# Altium integrated library Actel IGLOO.IntLib: 429 symbols (part 14 of 47)
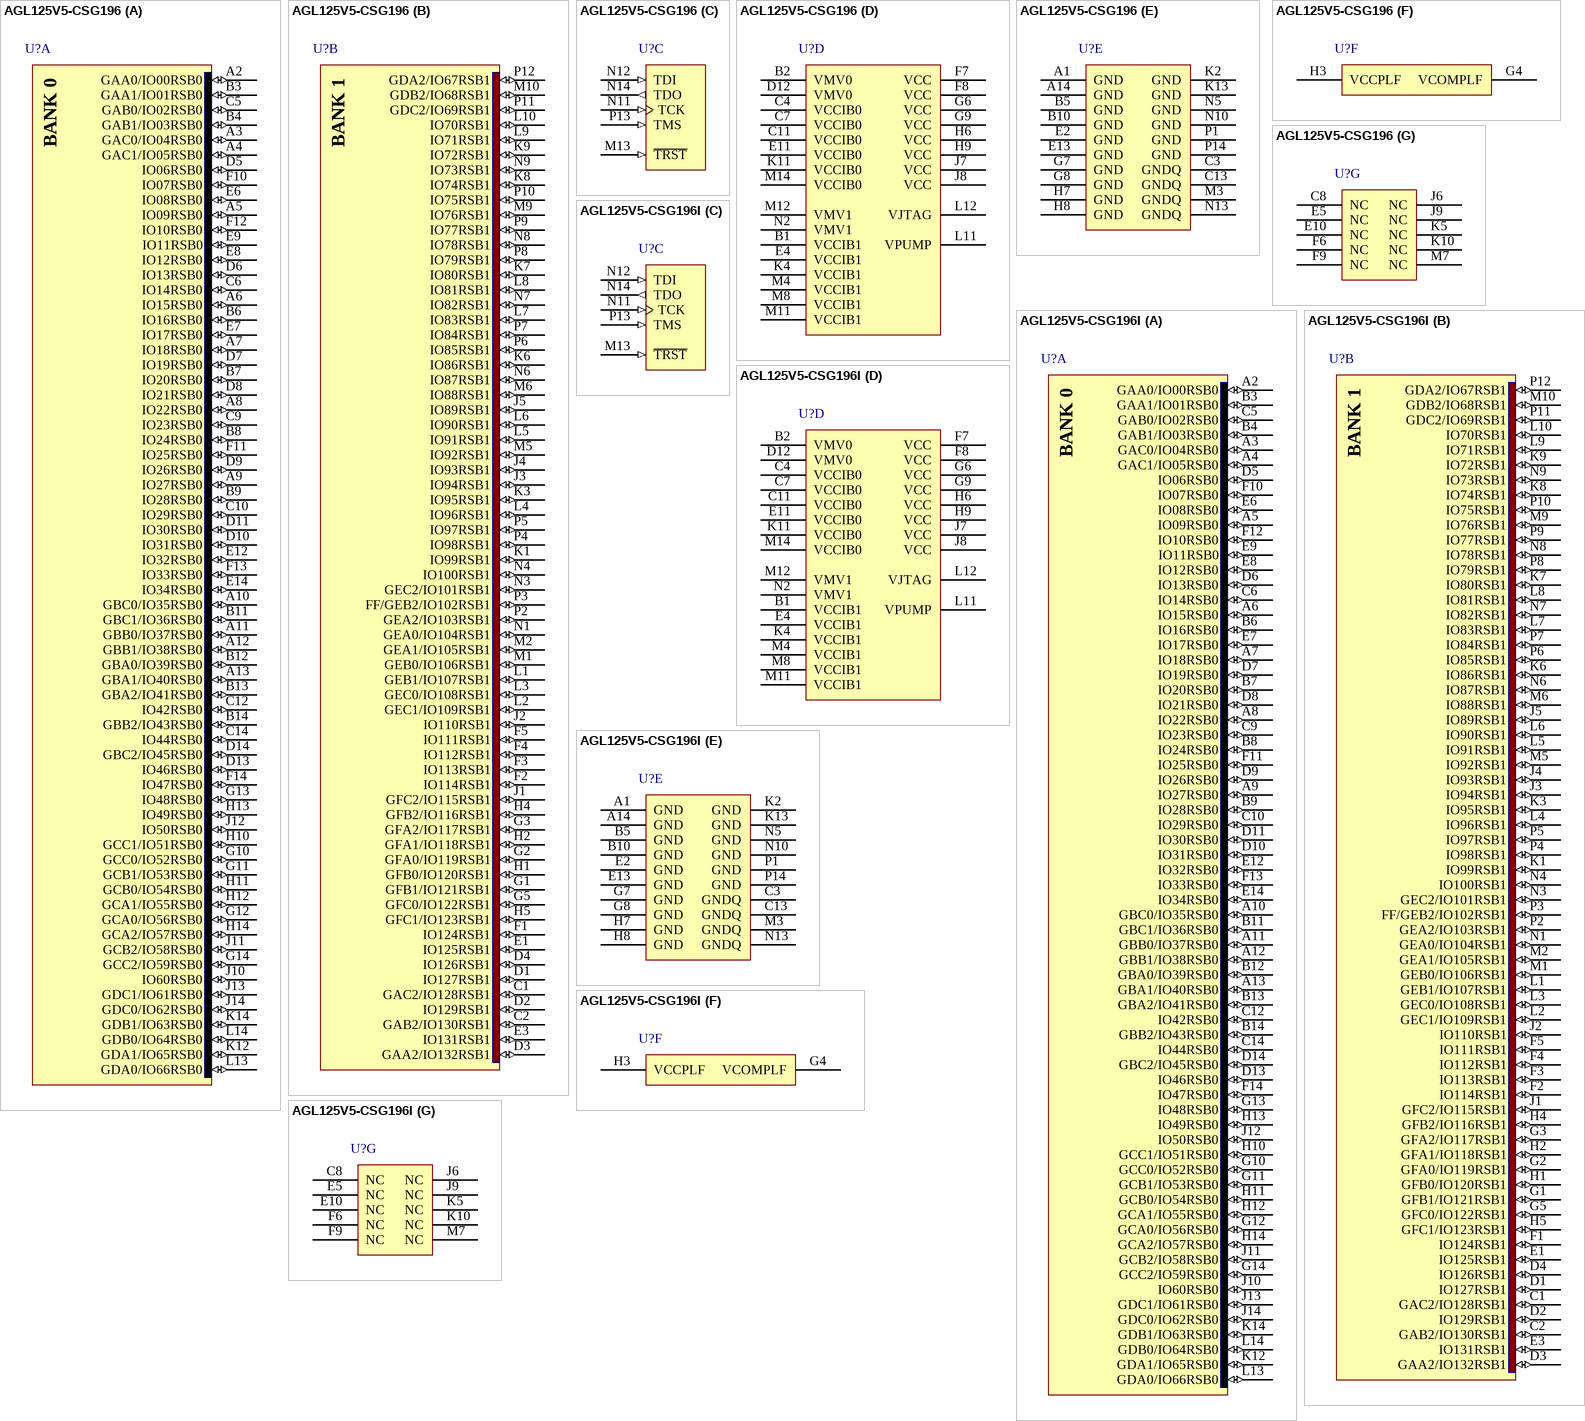
[diagram p363: symbols AGL125V5-CSG196 to AGL125V5-CSG196I]

## AGL125V5-CSG196I
designator U?
IGLOO Low-Power Flash 1.5V FPGA with Flash*Freeze, 133 User IOs, 125K System Gates, 36Kbits RAM, 1Kbit Flash ROM, 1 PLL, 196-Pin CSP, Industrial Grade, Pb-Free; Published: 14-Mar-2008; LatestRevisionDate: 11-Dec-2009; LatestRevisionNote: Updated to datasheet version 2.0 Nov-2009.; DatasheetVersion: v2.0, Nov-2009; PackageVersion: ver11.2, Nov-2009; PackageReference: CS196; Publisher: Altium Limited; PackageDescription: 196-Ball Chip Scale Ball Grid Array 0.5 mm Pitch (CS196); Code_JEDEC: MO-195-BE; ComponentLink1Description: IGLOO Datasheet; ComponentLink1URL: http://www.actel.com/documents/IGLOO_DS.pdf; ComponentLink2Description: Package Mechanical Drawings; ComponentLink2URL: http://www.actel.com/documents/PckgMechDrwngs.pdf; ComponentLink3Description: IGLOO Documents; ComponentLink3URL: http://www.actel.com/products/igloo/docs.aspx; ComponentLink4Description: Actel.com Home; ComponentLink4URL: http://www.actel.com/
footprint CS196 (BGA, 196-Leads, Body 8x8mm, Pitch 0.5mm)
signal-integrity model AGL125-CS196 (IGLOO)
part A pins: A2 GAA0/IO00RSB0 (io), A3 GAC0/IO04RSB0 (io), A4 GAC1/IO05RSB0 (io), A5 IO09RSB0 (io), A6 IO15RSB0 (io), A7 IO18RSB0 (io), A8 IO22RSB0 (io), A9 IO27RSB0 (io), A10 GBC0/IO35RSB0 (io), A11 GBB0/IO37RSB0 (io), A12 GBB1/IO38RSB0 (io), A13 GBA1/IO40RSB0 (io), B3 GAA1/IO01RSB0 (io), B4 GAB1/IO03RSB0 (io), B6 IO16RSB0 (io), B7 IO20RSB0 (io), B8 IO24RSB0 (io), B9 IO28RSB0 (io), B11 GBC1/IO36RSB0 (io), B12 GBA0/IO39RSB0 (io), B13 GBA2/IO41RSB0 (io), B14 GBB2/IO43RSB0 (io), C5 GAB0/IO02RSB0 (io), C6 IO14RSB0 (io), C9 IO23RSB0 (io), C10 IO29RSB0 (io), C12 IO42RSB0 (io), C14 IO44RSB0 (io), D5 IO06RSB0 (io), D6 IO13RSB0 (io), D7 IO19RSB0 (io), D8 IO21RSB0 (io), D9 IO26RSB0 (io), D10 IO31RSB0 (io), D11 IO30RSB0 (io), D13 IO46RSB0 (io), D14 GBC2/IO45RSB0 (io), E6 IO08RSB0 (io), E7 IO17RSB0 (io), E8 IO12RSB0 (io), E9 IO11RSB0 (io), E12 IO32RSB0 (io), E14 IO34RSB0 (io), F10 IO07RSB0 (io), F11 IO25RSB0 (io), F12 IO10RSB0 (io), F13 IO33RSB0 (io), F14 IO47RSB0 (io), G10 GCC0/IO52RSB0 (io), G11 GCB1/IO53RSB0 (io), G12 GCA0/IO56RSB0 (io), G13 IO48RSB0 (io), G14 GCC2/IO59RSB0 (io), H10 GCC1/IO51RSB0 (io), H11 GCB0/IO54RSB0 (io), H12 GCA1/IO55RSB0 (io), H13 IO49RSB0 (io), H14 GCA2/IO57RSB0 (io), J10 IO60RSB0 (io), J11 GCB2/IO58RSB0 (io), J12 IO50RSB0 (io), J13 GDC1/IO61RSB0 (io), J14 GDC0/IO62RSB0 (io), K12 GDA1/IO65RSB0 (io), K14 GDB1/IO63RSB0 (io), L13 GDA0/IO66RSB0 (io), L14 GDB0/IO64RSB0 (io)
part B pins: C1 GAC2/IO128RSB1 (io), C2 GAB2/IO130RSB1 (io), D1 IO127RSB1 (io), D2 IO129RSB1 (io), D3 GAA2/IO132RSB1 (io), D4 IO126RSB1 (io), E1 IO125RSB1 (io), E3 IO131RSB1 (io), F1 IO124RSB1 (io), F2 IO114RSB1 (io), F3 IO113RSB1 (io), F4 IO112RSB1 (io), F5 IO111RSB1 (io), G1 GFB1/IO121RSB1 (io), G2 GFA0/IO119RSB1 (io), G3 GFA2/IO117RSB1 (io), G5 GFC0/IO122RSB1 (io), H1 GFB0/IO120RSB1 (io), H2 GFA1/IO118RSB1 (io), H4 GFB2/IO116RSB1 (io), H5 GFC1/IO123RSB1 (io), J1 GFC2/IO115RSB1 (io), J2 IO110RSB1 (io), J3 IO94RSB1 (io), J4 IO93RSB1 (io), J5 IO89RSB1 (io), K1 IO99RSB1 (io), K3 IO95RSB1 (io), K6 IO86RSB1 (io), K7 IO80RSB1 (io), K8 IO74RSB1 (io), K9 IO72RSB1 (io), L1 GEB1/IO107RSB1 (io), L2 GEC1/IO109RSB1 (io), L3 GEC0/IO108RSB1 (io), L4 IO96RSB1 (io), L5 IO91RSB1 (io), L6 IO90RSB1 (io), L7 IO83RSB1 (io), L8 IO81RSB1 (io), L9 IO71RSB1 (io), L10 IO70RSB1 (io), M1 GEB0/IO106RSB1 (io), M2 GEA1/IO105RSB1 (io), M5 IO92RSB1 (io), M6 IO88RSB1 (io), M9 IO76RSB1 (io), M10 GDB2/IO68RSB1 (io), N1 GEA0/IO104RSB1 (io), N3 GEC2/IO101RSB1 (io), N4 IO100RSB1 (io), N6 IO87RSB1 (io), N7 IO82RSB1 (io), N8 IO78RSB1 (io), N9 IO73RSB1 (io), P2 GEA2/IO103RSB1 (io), P3 FF/GEB2/IO102RSB1 (io), P4 IO98RSB1 (io), P5 IO97RSB1 (io), P6 IO85RSB1 (io), P7 IO84RSB1 (io), P8 IO79RSB1 (io), P9 IO77RSB1 (io), P10 IO75RSB1 (io), P11 GDC2/IO69RSB1 (io), P12 GDA2/IO67RSB1 (io)
part C pins: M13 ~{TRST} (in), N11 TCK (in), N12 TDI (in), N14 TDO (out), P13 TMS (in)
part D pins: B1 VCCIB1 (power), B2 VMV0 (power), C4 VCCIB0 (power), C7 VCCIB0 (power), C11 VCCIB0 (power), D12 VMV0 (power), E4 VCCIB1 (power), E11 VCCIB0 (power), F7 VCC (power), F8 VCC (power), G6 VCC (power), G9 VCC (power), H6 VCC (power), H9 VCC (power), J7 VCC (power), J8 VCC (power), K4 VCCIB1 (power), K11 VCCIB0 (power), L11 VPUMP (power), L12 VJTAG (power), M4 VCCIB1 (power), M8 VCCIB1 (power), M11 VCCIB1 (power), M12 VMV1 (power), M14 VCCIB0 (power), N2 VMV1 (power)
part E pins: A1 GND (power), A14 GND (power), B5 GND (power), B10 GND (power), C3 GNDQ (power), C13 GNDQ (power), E2 GND (power), E13 GND (power), G7 GND (power), G8 GND (power), H7 GND (power), H8 GND (power), K2 GND (power), K13 GND (power), M3 GNDQ (power), N5 GND (power), N10 GND (power), N13 GNDQ (power), P1 GND (power), P14 GND (power)
part F pins: G4 VCOMPLF (power), H3 VCCPLF (power)
part G pins: C8 NC, E5 NC, E10 NC, F6 NC, F9 NC, J6 NC, J9 NC, K5 NC, K10 NC, M7 NC
part A text: BANK 0
part B text: BANK 1

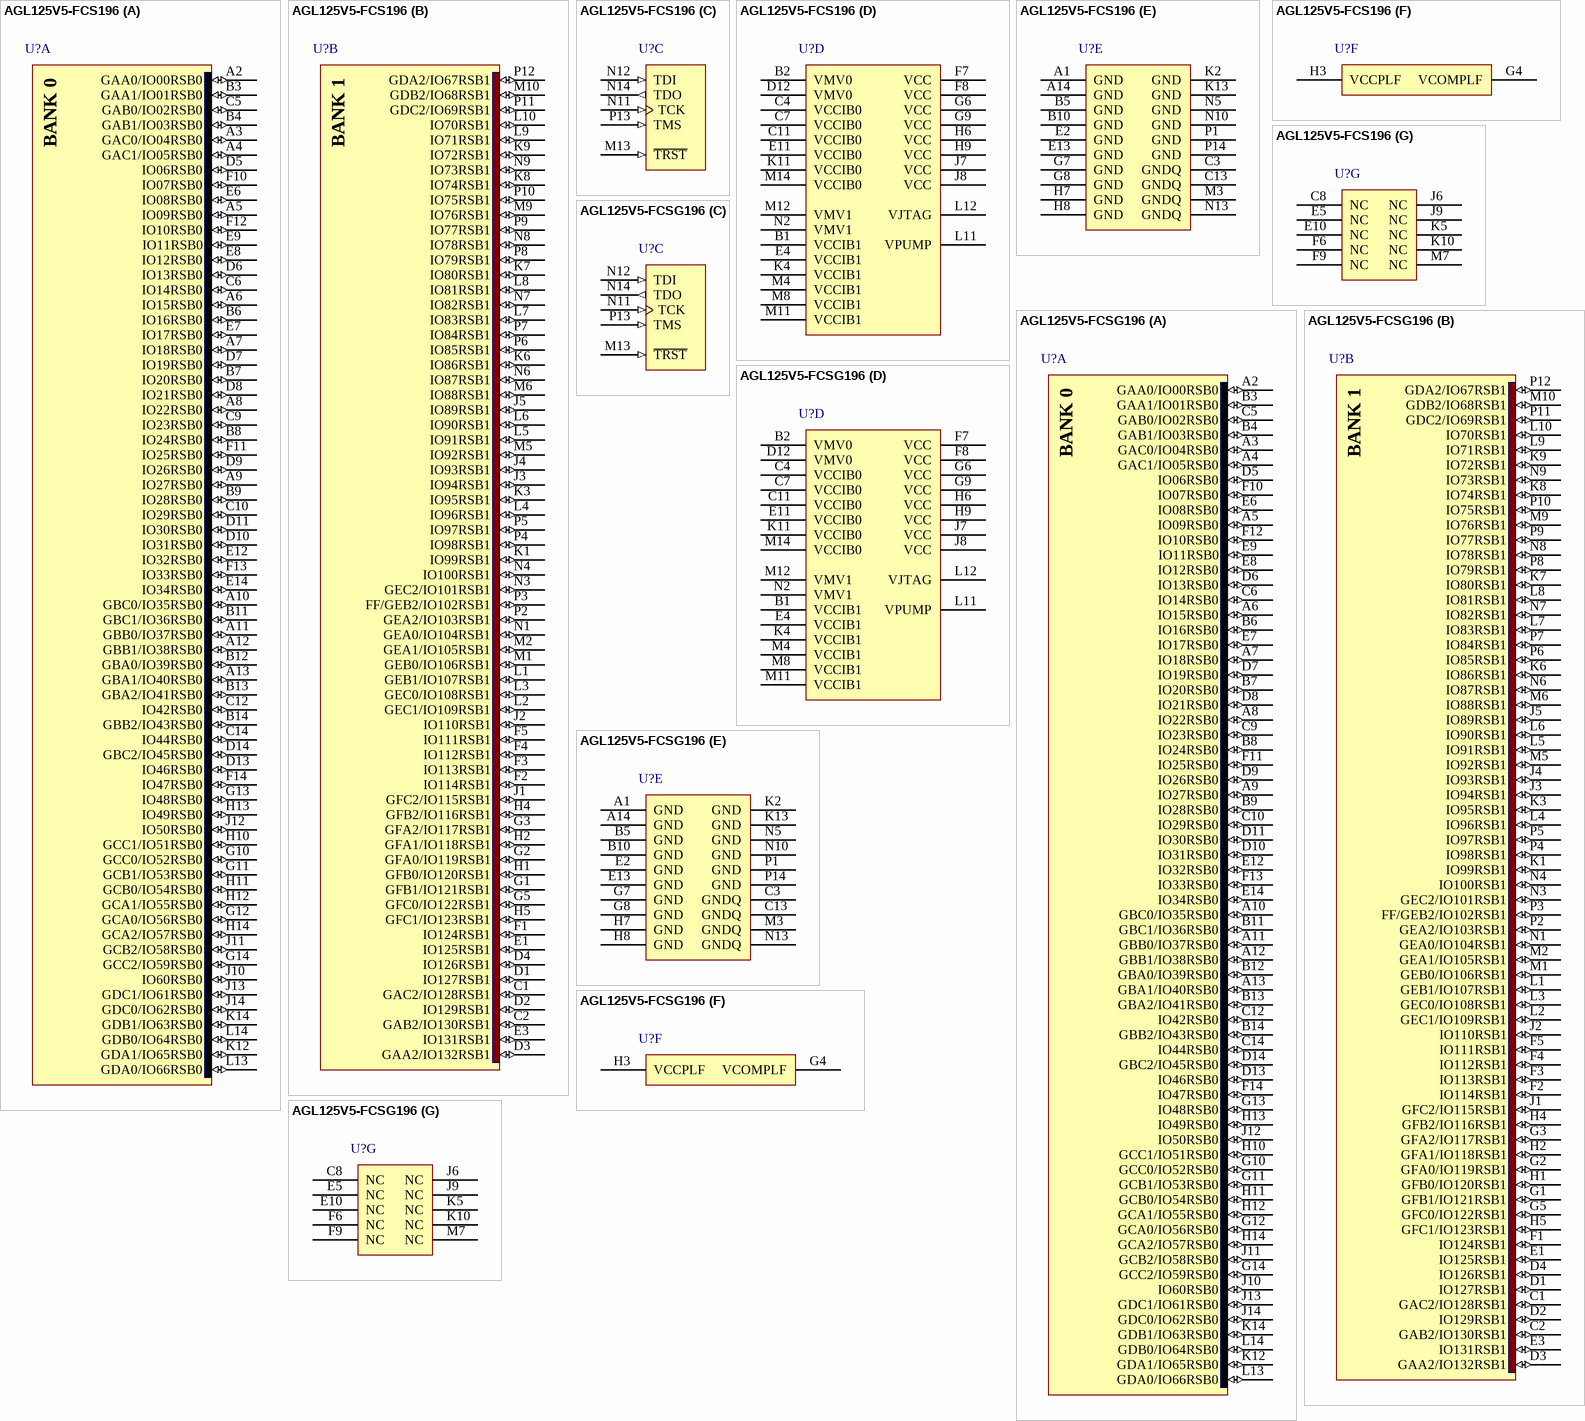
[diagram p43: symbols AGL125V5-FCS196 to AGL125V5-FCSG196]

## AGL125V5-FCS196
designator U?
IGLOO Low-Power Flash 1.5V FPGA with Flash*Freeze, 133 User IOs, 125K System Gates, 36Kbits RAM, 1Kbit Flash ROM, 1 PLL, 196-Pin CSP, F Speed Grade, Commercial Grade; ComponentAvailability: F speed grade removed in ver1.5, Apr-2009 datasheet.; Published: 14-Mar-2008; DatasheetVersion: v1.2, Feb-2008; PackageVersion: ver11.2, Nov-2009; PackageReference: CS196; Publisher: Altium Limited; PackageDescription: 196-Ball Chip Scale Ball Grid Array 0.5 mm Pitch (CS196); Code_JEDEC: MO-195-BE; ComponentLink1Description: IGLOO Datasheet; ComponentLink1URL: http://www.actel.com/documents/IGLOO_DS.pdf; ComponentLink2Description: Package Mechanical Drawings; ComponentLink2URL: http://www.actel.com/documents/PckgMechDrwngs.pdf; ComponentLink3Description: IGLOO Documents; ComponentLink3URL: http://www.actel.com/products/igloo/docs.aspx; ComponentLink4Description: Actel.com Home; ComponentLink4URL: http://www.actel.com/
footprint CS196 (BGA, 196-Leads, Body 8x8mm, Pitch 0.5mm)
signal-integrity model AGL125-CS196 (IGLOO)
part A pins: A2 GAA0/IO00RSB0 (io), A3 GAC0/IO04RSB0 (io), A4 GAC1/IO05RSB0 (io), A5 IO09RSB0 (io), A6 IO15RSB0 (io), A7 IO18RSB0 (io), A8 IO22RSB0 (io), A9 IO27RSB0 (io), A10 GBC0/IO35RSB0 (io), A11 GBB0/IO37RSB0 (io), A12 GBB1/IO38RSB0 (io), A13 GBA1/IO40RSB0 (io), B3 GAA1/IO01RSB0 (io), B4 GAB1/IO03RSB0 (io), B6 IO16RSB0 (io), B7 IO20RSB0 (io), B8 IO24RSB0 (io), B9 IO28RSB0 (io), B11 GBC1/IO36RSB0 (io), B12 GBA0/IO39RSB0 (io), B13 GBA2/IO41RSB0 (io), B14 GBB2/IO43RSB0 (io), C5 GAB0/IO02RSB0 (io), C6 IO14RSB0 (io), C9 IO23RSB0 (io), C10 IO29RSB0 (io), C12 IO42RSB0 (io), C14 IO44RSB0 (io), D5 IO06RSB0 (io), D6 IO13RSB0 (io), D7 IO19RSB0 (io), D8 IO21RSB0 (io), D9 IO26RSB0 (io), D10 IO31RSB0 (io), D11 IO30RSB0 (io), D13 IO46RSB0 (io), D14 GBC2/IO45RSB0 (io), E6 IO08RSB0 (io), E7 IO17RSB0 (io), E8 IO12RSB0 (io), E9 IO11RSB0 (io), E12 IO32RSB0 (io), E14 IO34RSB0 (io), F10 IO07RSB0 (io), F11 IO25RSB0 (io), F12 IO10RSB0 (io), F13 IO33RSB0 (io), F14 IO47RSB0 (io), G10 GCC0/IO52RSB0 (io), G11 GCB1/IO53RSB0 (io), G12 GCA0/IO56RSB0 (io), G13 IO48RSB0 (io), G14 GCC2/IO59RSB0 (io), H10 GCC1/IO51RSB0 (io), H11 GCB0/IO54RSB0 (io), H12 GCA1/IO55RSB0 (io), H13 IO49RSB0 (io), H14 GCA2/IO57RSB0 (io), J10 IO60RSB0 (io), J11 GCB2/IO58RSB0 (io), J12 IO50RSB0 (io), J13 GDC1/IO61RSB0 (io), J14 GDC0/IO62RSB0 (io), K12 GDA1/IO65RSB0 (io), K14 GDB1/IO63RSB0 (io), L13 GDA0/IO66RSB0 (io), L14 GDB0/IO64RSB0 (io)
part B pins: C1 GAC2/IO128RSB1 (io), C2 GAB2/IO130RSB1 (io), D1 IO127RSB1 (io), D2 IO129RSB1 (io), D3 GAA2/IO132RSB1 (io), D4 IO126RSB1 (io), E1 IO125RSB1 (io), E3 IO131RSB1 (io), F1 IO124RSB1 (io), F2 IO114RSB1 (io), F3 IO113RSB1 (io), F4 IO112RSB1 (io), F5 IO111RSB1 (io), G1 GFB1/IO121RSB1 (io), G2 GFA0/IO119RSB1 (io), G3 GFA2/IO117RSB1 (io), G5 GFC0/IO122RSB1 (io), H1 GFB0/IO120RSB1 (io), H2 GFA1/IO118RSB1 (io), H4 GFB2/IO116RSB1 (io), H5 GFC1/IO123RSB1 (io), J1 GFC2/IO115RSB1 (io), J2 IO110RSB1 (io), J3 IO94RSB1 (io), J4 IO93RSB1 (io), J5 IO89RSB1 (io), K1 IO99RSB1 (io), K3 IO95RSB1 (io), K6 IO86RSB1 (io), K7 IO80RSB1 (io), K8 IO74RSB1 (io), K9 IO72RSB1 (io), L1 GEB1/IO107RSB1 (io), L2 GEC1/IO109RSB1 (io), L3 GEC0/IO108RSB1 (io), L4 IO96RSB1 (io), L5 IO91RSB1 (io), L6 IO90RSB1 (io), L7 IO83RSB1 (io), L8 IO81RSB1 (io), L9 IO71RSB1 (io), L10 IO70RSB1 (io), M1 GEB0/IO106RSB1 (io), M2 GEA1/IO105RSB1 (io), M5 IO92RSB1 (io), M6 IO88RSB1 (io), M9 IO76RSB1 (io), M10 GDB2/IO68RSB1 (io), N1 GEA0/IO104RSB1 (io), N3 GEC2/IO101RSB1 (io), N4 IO100RSB1 (io), N6 IO87RSB1 (io), N7 IO82RSB1 (io), N8 IO78RSB1 (io), N9 IO73RSB1 (io), P2 GEA2/IO103RSB1 (io), P3 FF/GEB2/IO102RSB1 (io), P4 IO98RSB1 (io), P5 IO97RSB1 (io), P6 IO85RSB1 (io), P7 IO84RSB1 (io), P8 IO79RSB1 (io), P9 IO77RSB1 (io), P10 IO75RSB1 (io), P11 GDC2/IO69RSB1 (io), P12 GDA2/IO67RSB1 (io)
part C pins: M13 ~{TRST} (in), N11 TCK (in), N12 TDI (in), N14 TDO (out), P13 TMS (in)
part D pins: B1 VCCIB1 (power), B2 VMV0 (power), C4 VCCIB0 (power), C7 VCCIB0 (power), C11 VCCIB0 (power), D12 VMV0 (power), E4 VCCIB1 (power), E11 VCCIB0 (power), F7 VCC (power), F8 VCC (power), G6 VCC (power), G9 VCC (power), H6 VCC (power), H9 VCC (power), J7 VCC (power), J8 VCC (power), K4 VCCIB1 (power), K11 VCCIB0 (power), L11 VPUMP (power), L12 VJTAG (power), M4 VCCIB1 (power), M8 VCCIB1 (power), M11 VCCIB1 (power), M12 VMV1 (power), M14 VCCIB0 (power), N2 VMV1 (power)
part E pins: A1 GND (power), A14 GND (power), B5 GND (power), B10 GND (power), C3 GNDQ (power), C13 GNDQ (power), E2 GND (power), E13 GND (power), G7 GND (power), G8 GND (power), H7 GND (power), H8 GND (power), K2 GND (power), K13 GND (power), M3 GNDQ (power), N5 GND (power), N10 GND (power), N13 GNDQ (power), P1 GND (power), P14 GND (power)
part F pins: G4 VCOMPLF (power), H3 VCCPLF (power)
part G pins: C8 NC, E5 NC, E10 NC, F6 NC, F9 NC, J6 NC, J9 NC, K5 NC, K10 NC, M7 NC
part A text: BANK 0
part B text: BANK 1